# Altium footprint library Main Board.PcbLib: 23 footprints (part 1 of 2)
Each footprint in its own frame and in the unit in brackets; x right, y up, seen from the top. Pads: shape width x height; smd on the part's side, far side on the other; paste and mask are expansions set on the pad; w line width, h text height; cw(c..) or ccw(c..) is an arc to the next point about the centre after c.
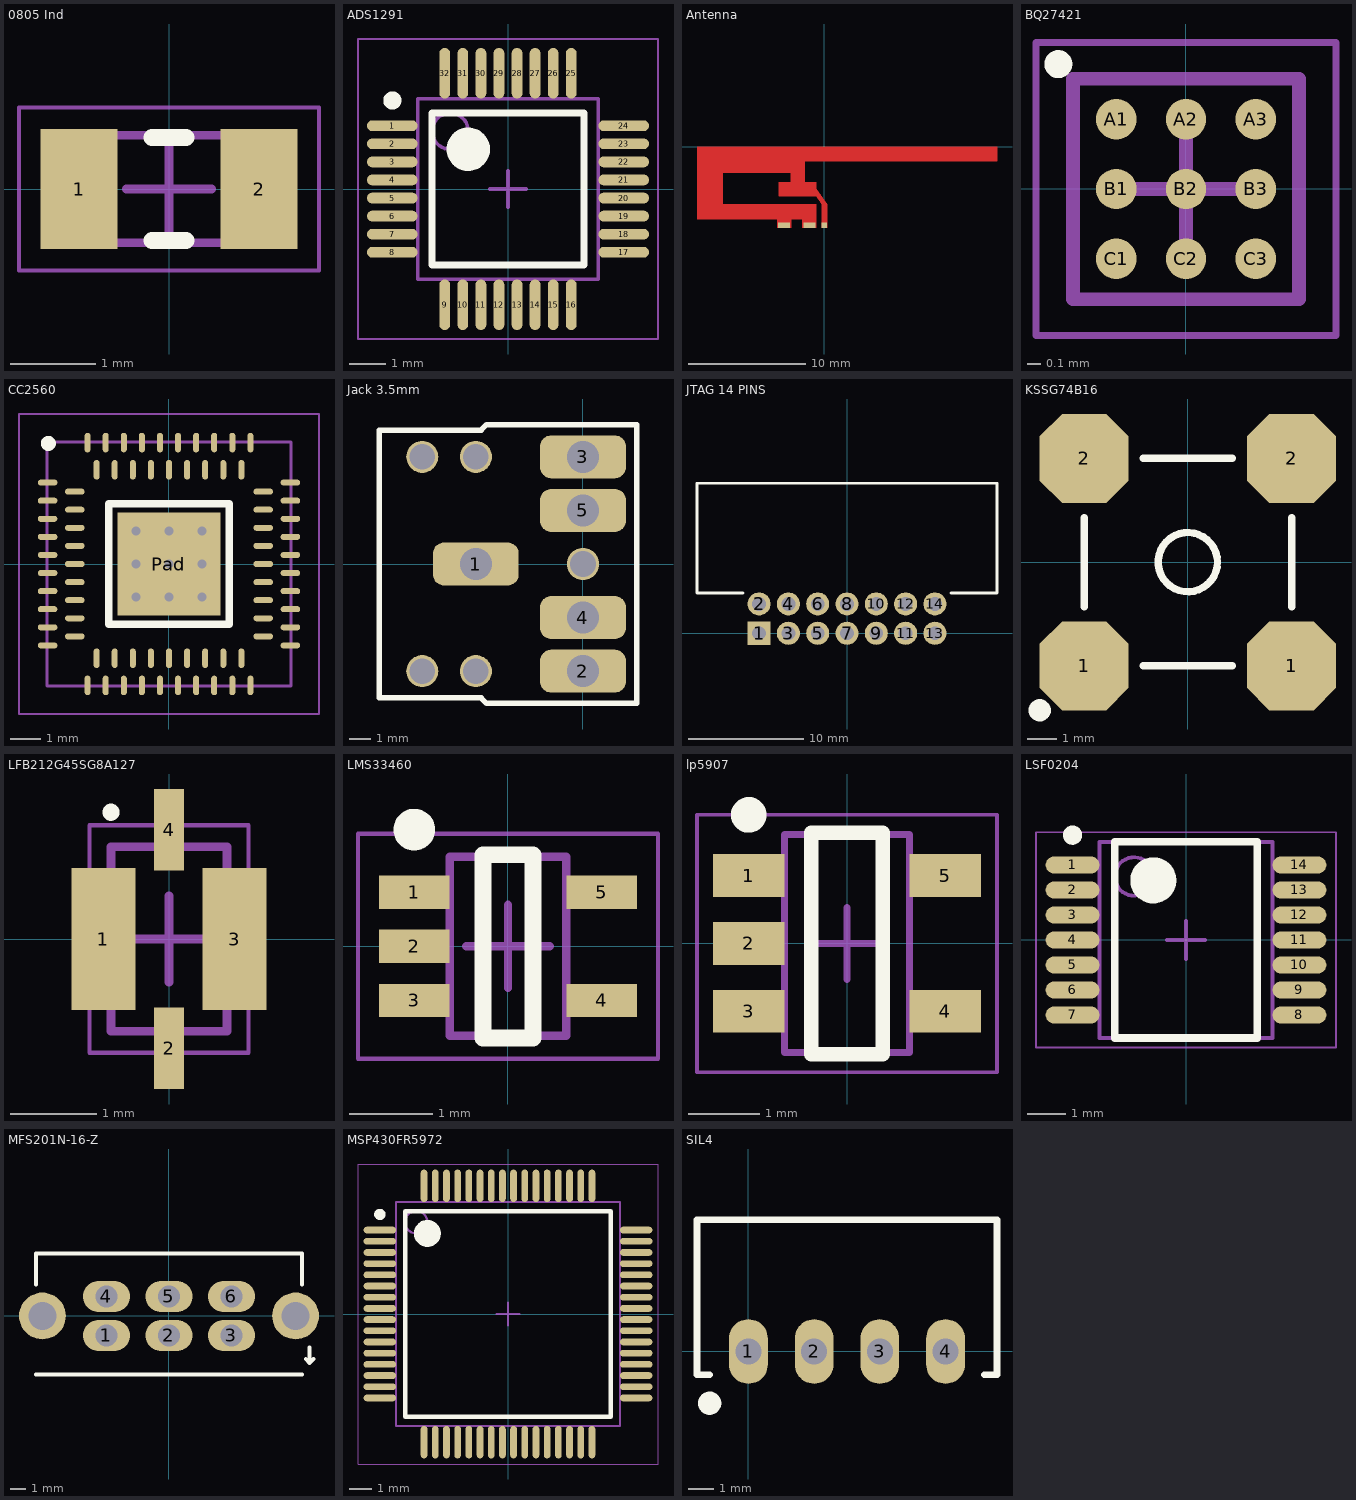
[diagram p0: the footprints below, top view; thin cyan lines are the x and y axes]

## 0805 Ind [mm] "Chip Capacitor, 2-Leads, Body 2,00x1,25mm, IPC Medium Density"
height 0.6
pads (2):
  rect 0.9x1.4 smd: 1(-1.05,0) 2(1.05,0)
Top Overlay:
  lines w0.2: -0.2,-0.6 0.2,-0.6 ; -0.2,0.6 0.2,0.6
Mechanical 13:
  lines w0.1: -1,-0.625 1,-0.625 1,0.625 -1,0.625 -1,-0.625
Mechanical 15:
  lines w0.05: -1.75,-0.95 1.75,-0.95 1.75,0.95 -1.75,0.95 -1.75,-0.95
  lines w0.1: -0.5,0 0.5,0 ; 0,-0.5 0,0.5
3D body: height 0.95, standoff 0, extent -1,-0.6 1,0.6

## ADS1291 [mm] "TSQFP, 32-Leads, Body 5,00x5,00mm, Pitch 0,50mm, IPC Medium Density"
height 1.2
pads (32):
  oval 1.4x0.3 smd: 1(-3.2,1.75) 2(-3.2,1.25) 3(-3.2,0.75) 4(-3.2,0.25) 5(-3.2,-0.25) 6(-3.2,-0.75) 7(-3.2,-1.25) 8(-3.2,-1.75) 17(3.2,-1.75) 18(3.2,-1.25) 19(3.2,-0.75) 20(3.2,-0.25) 21(3.2,0.25) 22(3.2,0.75) 23(3.2,1.25) 24(3.2,1.75)
  oval 0.3x1.4 smd: 9(-1.75,-3.2) 10(-1.25,-3.2) 11(-0.75,-3.2) 12(-0.25,-3.2) 13(0.25,-3.2) 14(0.75,-3.2) 15(1.25,-3.2) 16(1.75,-3.2) 25(1.75,3.2) 26(1.25,3.2) 27(0.75,3.2) 28(0.25,3.2) 29(-0.25,3.2) 30(-0.75,3.2) 31(-1.25,3.2) 32(-1.75,3.2)
Top Overlay:
  circle w0.6: c-1.1,1.1 r0.3
  circle w0.25: c-3.2,2.45 r0.125
  lines w0.2: -2.1,-2.1 2.1,-2.1 2.1,2.1 -2.1,2.1 -2.1,-2.1
Mechanical 13:
  circle w0.1: c-1.6,1.6 r0.5
  lines w0.1: -2.5,-2.5 2.5,-2.5 2.5,2.5 -2.5,2.5 -2.5,-2.5
Mechanical 15:
  lines w0.05: -4.15,-4.15 4.15,-4.15 4.15,4.15 -4.15,4.15 -4.15,-4.15
  lines w0.1: -0.5,0 0.5,0 ; 0,-0.5 0,0.5
3D body: height 1.2, standoff 0.25, extent -2.5,-2.5 2.5,2.5

## Antenna [mm] "2.4 GHz F-antenna"
pads (3):
  rect 0.46x0.46 smd: 1(0,-6.675)
  rect 1x0.46 smd: 2(-3.45,-6.675) 2(-1.275,-6.675)
Top Layer:
  region: -10.86,-6.17 -10.86,0 14.72,0 14.72,-1.21 -1.68,-1.21 -1.68,-3.01 -0.68,-3.01 -0.68,-3.55 0.23,-4.88 0.23,-6.91 -0.23,-6.91 -0.23,-4.88 -0.68,-4.22 -3.88,-4.22 -3.88,-3.01 -2.88,-3.01 -2.88,-2.21 -8.68,-2.21 -8.68,-4.88 -0.68,-4.88 -0.68,-6.91 -1.878,-6.91 -1.878,-6.17 -2.841,-6.17 -2.841,-6.91 -4.027,-6.91 -4.027,-6.17

## BATT [mm]
height 6
3D body: height 6, standoff 0, extent -17,42 17,50
3D body: height 6, standoff 0, extent -17,0 17,42

## BQ27421 [mm] "BGA, 9-Leads, Body 1,62x1,58mmx0,63mm, Pitch 0,50mm"
height 0.63
pads (9):
  round 0.29 smd mask+0.05: A1(-0.5,0.5) A2(0,0.5) A3(0.5,0.5) B1(-0.5,0) B2(0,0) B3(0.5,0) C1(-0.5,-0.5) C2(0,-0.5) C3(0.5,-0.5)
Top Overlay:
  circle w0.1: c-0.915,0.895 r0.05
Mechanical 13:
  lines w0.1: -0.81,-0.79 0.81,-0.79 0.81,0.79 -0.81,0.79 -0.81,-0.79
Mechanical 15:
  lines w0.05: -1.075,-1.05 1.075,-1.05 1.075,1.05 -1.075,1.05 -1.075,-1.05
  lines w0.1: -0.5,0 0.5,0 ; 0,-0.5 0,0.5
3D body: height 0.63, standoff 0.35, extent -0.81,-0.79 0.81,0.79

## CC2560 [mm] "Double Row QFN, 76-Leads, Body 8,00x8,00mm, Pitch 0,60mm, Thermal Pad 3,40x3,40mm, IPC Low Density"
height 0.9
pads (77):
  oval 0.65x0.2 smd: A1(-4.025,2.7) A2(-4.025,2.1) A3(-4.025,1.5) A4(-4.025,0.9) A5(-4.025,0.3) A6(-4.025,-0.3) A7(-4.025,-0.9) A8(-4.025,-1.5) A9(-4.025,-2.1) A10(-4.025,-2.7) A21(4.025,-2.7) A22(4.025,-2.1) A23(4.025,-1.5) A24(4.025,-0.9) A25(4.025,-0.3) A26(4.025,0.3) A27(4.025,0.9) A28(4.025,1.5) A29(4.025,2.1) A30(4.025,2.7) B1(-3.125,2.4) B2(-3.125,1.8) B3(-3.125,1.2) B4(-3.125,0.6) B5(-3.125,0) B6(-3.125,-0.6) B7(-3.125,-1.2) B8(-3.125,-1.8) B9(-3.125,-2.4) B19(3.125,-2.4) B20(3.125,-1.8) B21(3.125,-1.2) B22(3.125,-0.6) B23(3.125,0) B24(3.125,0.6) B25(3.125,1.2) B26(3.125,1.8) B27(3.125,2.4)
  oval 0.2x0.65 smd: A11(-2.7,-4.025) A12(-2.1,-4.025) A13(-1.5,-4.025) A14(-0.9,-4.025) A15(-0.3,-4.025) A16(0.3,-4.025) A17(0.9,-4.025) A18(1.5,-4.025) A19(2.1,-4.025) A20(2.7,-4.025) A31(2.7,4.025) A32(2.1,4.025) A33(1.5,4.025) A34(0.9,4.025) A35(0.3,4.025) A36(-0.3,4.025) A37(-0.9,4.025) A38(-1.5,4.025) A39(-2.1,4.025) A40(-2.7,4.025) B10(-2.4,-3.125) B11(-1.8,-3.125) B12(-1.2,-3.125) B13(-0.6,-3.125) B14(0,-3.125) B15(0.6,-3.125) B16(1.2,-3.125) B17(1.8,-3.125) B18(2.4,-3.125) B28(2.4,3.125) B29(1.8,3.125) B30(1.2,3.125) B31(0.6,3.125) B32(0,3.125) B33(-0.6,3.125) B34(-1.2,3.125) B35(-1.8,3.125) B36(-2.4,3.125)
  rect 3.4x3.4 smd: Pad(0,0)
via -1.1,-1.1 diameter 0.5 hole 0.3
via 0,-1.1 diameter 0.5 hole 0.3
via 1.1,-1.1 diameter 0.5 hole 0.3
via -1.1,0 diameter 0.5 hole 0.3
via 0,0 diameter 0.5 hole 0.3
via 1.1,0 diameter 0.5 hole 0.3
via -1.1,1.1 diameter 0.5 hole 0.3
via 0,1.1 diameter 0.5 hole 0.3
via 1.1,1.1 diameter 0.5 hole 0.3
Top Overlay:
  circle w0.25: c-4,4 r0.125
  lines w0.25: -2,-2 2,-2 2,2 -2,2 -2,-2
Mechanical 13:
  lines w0.1: -4.05,-4.05 4.05,-4.05 4.05,4.05 -4.05,4.05 -4.05,-4.05
Mechanical 15:
  lines w0.05: -4.975,-4.975 4.975,-4.975 4.975,4.975 -4.975,4.975 -4.975,-4.975
  lines w0.1: -0.5,0 0.5,0 ; 0,-0.5 0,0.5
3D body: height 0.9, standoff 0, extent -4.05,-4.05 4.05,4.05

## Jack 3.5mm [mm]
pads (10):
  rrect50% 4x2 hole 1.5: 1(-5,0) 2(0,-5) 3(0,5) 4(0,-2.5) 5(0,2.5)
  round 1.5 hole 1.2 unplated: ""(-7.5,-5) ""(-7.5,5) ""(-5,-5) ""(-5,5) ""(0,0)
Top Overlay:
  lines w0.254: -9.5,-6.25 -4.75,-6.25 -4.5,-6.5 2.5,-6.5 2.5,6.5 -4.5,6.5 -4.75,6.25 -7.25,6.25 -9.5,6.25 -9.5,4.5 -9.5,-4.5 -9.5,-6.25

## JTAG 14 PINS [mm] "7X2 PIN Header 90º JTAG"
height 9.1
pads (14):
  rect 2x2 hole 1.2: 1(-7.62,0)
  round 2 hole 1.2: 2(-7.62,2.54) 3(-5.08,0) 4(-5.08,2.54) 5(-2.54,0) 6(-2.54,2.54) 7(0,0) 8(0,2.54) 9(2.54,0) 10(2.54,2.54) 11(5.08,0) 12(5.08,2.54) 13(7.62,0) 14(7.62,2.54)
Top Overlay:
  lines w0.25: -9,3.5 -13,3.5 -13,13 13,13 13,3.5 9,3.5
3D body: height 5.75, standoff 5.25, extent -7.87,-0.25 -7.37,11.29
3D body: height 3.25, standoff 2.75, extent -7.87,2.29 -7.37,11.29
3D body: height 3.25, standoff -3, extent -7.87,2.29 -7.37,2.79
3D body: height 5.75, standoff -3, extent -7.87,-0.25 -7.37,0.25
3D body: height 7.75, standoff 1.5, extent -11.37,3.75 11.37,5.25
3D body: height 1.5, standoff 0, extent -12.87,3.75 12.87,13
3D body: height 7.75, standoff 1.5, extent -12.87,3.75 -11.37,13
3D body: height 7.75, standoff 1.5, extent 11.37,3.75 12.87,13
3D body: height 9.25, standoff 7.75, extent -12.87,3.75 12.87,13
3D body: height 5.75, standoff -3, extent -5.33,-0.25 -4.83,0.25
3D body: height 3.25, standoff -3, extent -5.33,2.29 -4.83,2.79
3D body: height 3.25, standoff 2.75, extent -5.33,2.29 -4.83,11.29
3D body: height 5.75, standoff 5.25, extent -5.33,-0.25 -4.83,11.29
3D body: height 5.75, standoff -3, extent -2.79,-0.25 -2.29,0.25
3D body: height 3.25, standoff -3, extent -2.79,2.29 -2.29,2.79
3D body: height 3.25, standoff 2.75, extent -2.79,2.29 -2.29,11.29
3D body: height 5.75, standoff 5.25, extent -2.79,-0.25 -2.29,11.29
3D body: height 5.75, standoff -3, extent -0.25,-0.25 0.25,0.25
3D body: height 3.25, standoff -3, extent -0.25,2.29 0.25,2.79
3D body: height 3.25, standoff 2.75, extent -0.25,2.29 0.25,11.29
3D body: height 5.75, standoff 5.25, extent -0.25,-0.25 0.25,11.29
3D body: height 5.75, standoff -3, extent 2.29,-0.25 2.79,0.25
3D body: height 3.25, standoff -3, extent 2.29,2.29 2.79,2.79
3D body: height 3.25, standoff 2.75, extent 2.29,2.29 2.79,11.29
3D body: height 5.75, standoff 5.25, extent 2.29,-0.25 2.79,11.29
3D body: height 5.75, standoff -3, extent 4.83,-0.25 5.33,0.25
3D body: height 3.25, standoff -3, extent 4.83,2.29 5.33,2.79
3D body: height 3.25, standoff 2.75, extent 4.83,2.29 5.33,11.29
3D body: height 5.75, standoff 5.25, extent 4.83,-0.25 5.33,11.29
3D body: height 5.75, standoff -3, extent 7.37,-0.25 7.87,0.25
3D body: height 3.25, standoff -3, extent 7.37,2.29 7.87,2.79
3D body: height 3.25, standoff 2.75, extent 7.37,2.29 7.87,11.29
3D body: height 5.75, standoff 5.25, extent 7.37,-0.25 7.87,11.29

## KSSG74B16 [mm] "Magnetic Buzzer"
height 3
pads (4):
  oct 3x3 smd: 1(-3.5,-3.5) 1(3.5,-3.5) 2(-3.5,3.5) 2(3.5,3.5)
Top Overlay:
  circle w0.5: c-5,-5 r0.125
  circle w0.25: c0,0 r1
  lines w0.25: -3.5,-1.5 -3.5,1.5 ; -1.5,-3.5 1.5,-3.5 ; -1.5,3.5 1.5,3.5 ; 3.5,-1.5 3.5,1.5
3D body: height 1.5, standoff 0, extent -0.992,-0.998 1,0.998
3D body: height 3, standoff 0, extent -4.25,-4.25 4.25,4.25

## LFB212G45SG8A127 [mm] "DFN, 4-Leads, Body 2,00x1,25mm, Pitch 1,50mm, IPC Medium Density"
height 1
pads (4):
  rect 0.75x1.65 smd mask+0.05: 1(-0.762,0) 3(0.762,0)
  rect 0.35x0.95 smd mask+0.05: 2(0,-1.27) 4(0,1.27)
Top Overlay:
  circle w0.1: c-0.675,1.475 r0.05
Mechanical 13:
  lines w0.1: -0.675,-1.075 0.675,-1.075 0.675,1.075 -0.675,1.075 -0.675,-1.075
Mechanical 15:
  lines w0.05: -0.925,-1.325 0.925,-1.325 0.925,1.325 -0.925,1.325 -0.925,-1.325
  lines w0.1: -0.5,0 0.5,0 ; 0,-0.5 0,0.5
3D body: height 1, standoff 0, extent -0.675,-1.075 0.675,1.075

## LMS33460 [mm] "SOT23, 5-Leads, Body 2,00x2,10mm, Pitch 0,65mm, IPC Medium Density"
height 1.1
pads (5):
  rect 0.85x0.4 smd mask+0.06: 1(-1.125,0.65) 2(-1.125,0) 3(-1.125,-0.65) 4(1.125,-0.65) 5(1.125,0.65)
Top Overlay:
  circle w0.25: c-1.125,1.4 r0.125
  lines w0.2: -0.3,-1.1 -0.3,1.1 0.3,1.1 0.3,-1.1 -0.3,-1.1
Mechanical 13:
  lines w0.1: -0.7,-1.075 0.7,-1.075 0.7,1.075 -0.7,1.075 -0.7,-1.075
Mechanical 15:
  lines w0.05: -1.8,-1.35 1.8,-1.35 1.8,1.35 -1.8,1.35 -1.8,-1.35
  lines w0.1: -0.5,0 0.5,0 ; 0,-0.5 0,0.5
3D body: height 1.1, standoff 0, extent -0.7,-1.075 0.7,1.075

## lp5907 [mm] "SOT23, 5-Leads, Body 2,90x2,80mm, Pitch 0,95mm, IPC Medium Density"
height 1.45
pads (5):
  rect 1x0.6 smd: 1(-1.375,0.95) 2(-1.375,0) 3(-1.375,-0.95) 4(1.375,-0.95) 5(1.375,0.95)
Top Overlay:
  circle w0.25: c-1.375,1.8 r0.125
  lines w0.2: -0.5,-1.55 -0.5,1.55 0.5,1.55 0.5,-1.55 -0.5,-1.55
Mechanical 13:
  lines w0.1: -0.875,-1.525 0.875,-1.525 0.875,1.525 -0.875,1.525 -0.875,-1.525
Mechanical 15:
  lines w0.05: -2.1,-1.8 2.1,-1.8 2.1,1.8 -2.1,1.8 -2.1,-1.8
  lines w0.1: -0.5,0 0.5,0 ; 0,-0.5 0,0.5
3D body: height 1.45, standoff 0.15, extent -0.875,-1.525 0.875,1.525

## LSF0204 [mm] "TSOP, 14-Leads, Body 5,00x4,40mm, Pitch 0,65mm, IPC Medium Density"
height 0.15
pads (14):
  oval 1.4x0.45 smd: 1(-2.95,1.95) 2(-2.95,1.3) 3(-2.95,0.65) 4(-2.95,0) 5(-2.95,-0.65) 6(-2.95,-1.3) 7(-2.95,-1.95) 8(2.95,-1.95) 9(2.95,-1.3) 10(2.95,-0.65) 11(2.95,0) 12(2.95,0.65) 13(2.95,1.3) 14(2.95,1.95)
Top Overlay:
  circle w0.6: c-0.85,1.55 r0.3
  circle w0.25: c-2.95,2.725 r0.125
  lines w0.2: -1.85,-2.55 1.85,-2.55 1.85,2.55 -1.85,2.55 -1.85,-2.55
Mechanical 13:
  circle w0.1: c-1.35,1.65 r0.5
  lines w0.1: -2.25,-2.55 2.25,-2.55 2.25,2.55 -2.25,2.55 -2.25,-2.55
Mechanical 15:
  lines w0.05: -3.9,-2.8 3.9,-2.8 3.9,2.8 -3.9,2.8 -3.9,-2.8
  lines w0.1: -0.5,0 0.5,0 ; 0,-0.5 0,0.5
3D body: height 0.15, standoff 0.1, extent -2.25,-2.55 2.25,2.55

## MFS201N-16-Z [mm] "DPDT Switch 30V 1A"
pads (8):
  oval 3x2 hole 1.4: 1(-4,-1.25) 2(0,-1.25) 3(4,-1.25) 4(-4,1.25) 5(0,1.25) 6(4,1.25)
  round 3 hole 1.8: ""(-8.1,0) ""(8.1,0)
Top Overlay:
  lines w0.25: -8.5,-3.75 8.5,-3.75 ; -8.5,2 -8.5,4 8.5,4 8.5,2 ; 8.75,-2.75 9,-3 ; 9,-2 9,-3 ; 9.25,-2.75 9,-3
3D body: height 7, standoff 3, extent -4,-10.85 4,-3.75
3D body: height 0, standoff -3, extent -4.5,-1.5 -3.5,-1
3D body: height 0, standoff -3, extent -0.5,-1.5 0.5,-1
3D body: height 0, standoff -3, extent 3.5,-1.5 4.5,-1
3D body: height 0, standoff -3, extent 3.5,1 4.5,1.5
3D body: height 0, standoff -3, extent -0.5,1 0.5,1.5
3D body: height 0, standoff -3, extent -4.5,1 -3.5,1.5
3D body: height 9, standoff 0, extent -8.4,-3.75 8.4,3.75
3D body: height 0, standoff -3, extent -8.35,-0.75 -7.85,0.75
3D body: height 0, standoff -3, extent 7.85,-0.75 8.35,0.75

## MSP430FR5972 [mm] "TSQFP, 64-Leads, Body 10,00x10,00mm, Pitch 0,50mm, IPC Medium Density"
height 1.6
pads (64):
  oval 1.45x0.3 smd: 1(-5.725,3.75) 2(-5.725,3.25) 3(-5.725,2.75) 4(-5.725,2.25) 5(-5.725,1.75) 6(-5.725,1.25) 7(-5.725,0.75) 8(-5.725,0.25) 9(-5.725,-0.25) 10(-5.725,-0.75) 11(-5.725,-1.25) 12(-5.725,-1.75) 13(-5.725,-2.25) 14(-5.725,-2.75) 15(-5.725,-3.25) 16(-5.725,-3.75) 33(5.725,-3.75) 34(5.725,-3.25) 35(5.725,-2.75) 36(5.725,-2.25) 37(5.725,-1.75) 38(5.725,-1.25) 39(5.725,-0.75) 40(5.725,-0.25) 41(5.725,0.25) 42(5.725,0.75) 43(5.725,1.25) 44(5.725,1.75) 45(5.725,2.25) 46(5.725,2.75) 47(5.725,3.25) 48(5.725,3.75)
  oval 0.3x1.45 smd: 17(-3.75,-5.725) 18(-3.25,-5.725) 19(-2.75,-5.725) 20(-2.25,-5.725) 21(-1.75,-5.725) 22(-1.25,-5.725) 23(-0.75,-5.725) 24(-0.25,-5.725) 25(0.25,-5.725) 26(0.75,-5.725) 27(1.25,-5.725) 28(1.75,-5.725) 29(2.25,-5.725) 30(2.75,-5.725) 31(3.25,-5.725) 32(3.75,-5.725) 49(3.75,5.725) 50(3.25,5.725) 51(2.75,5.725) 52(2.25,5.725) 53(1.75,5.725) 54(1.25,5.725) 55(0.75,5.725) 56(0.25,5.725) 57(-0.25,5.725) 58(-0.75,5.725) 59(-1.25,5.725) 60(-1.75,5.725) 61(-2.25,5.725) 62(-2.75,5.725) 63(-3.25,5.725) 64(-3.75,5.725)
Top Overlay:
  circle w0.25: c-5.725,4.45 r0.125
  circle w0.6: c-3.6,3.6 r0.3
  lines w0.2: -4.6,-4.6 -4.6,4.6 4.6,4.6 4.6,-4.6 -4.6,-4.6
Mechanical 13:
  circle w0.1: c-4.1,4.1 r0.5
  lines w0.1: -5,-5 -5,5 5,5 5,-5 -5,-5
Mechanical 15:
  lines w0.05: -6.7,-6.7 -6.7,6.7 6.7,6.7 6.7,-6.7 -6.7,-6.7
  lines w0.1: -0.5,0 0.5,0 ; 0,-0.5 0,0.5
3D body: height 1.6, standoff 0.25, extent -5,-5 5,5

## SIL4 [mm]
pads (4):
  oval 1.5x2.5 hole 1: 1(0,0) 2(2.54,0) 3(5.08,0) 4(7.62,0)
Top Overlay:
  circle w0.5: c-1.5,-2 r0.2
  lines w0.254: -1.49,-0.9 -1.99,-0.9 -1.99,5.1 9.61,5.1 9.61,-0.9 9.11,-0.9